# Altium schematic symbol library 5103308-2.SchLib: 1 symbol
Pins are listed as number, name and electrical type; pins without a type are passive.

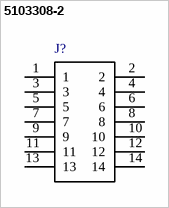
[diagram p0: symbol 5103308-2]

## 5103308-2
designator J?  (value not drawn)
/ Header; Pin; Vertical; Copper Alloy; Thermoplastic; 14; 0.100 x 0.100 in.; 1 A /; MF: TE Connectivity; TE_purchase_URL: https://www.te.com/usa-en/product-5103308-2.html?te_bu=Cor&te_type=disp&te_campaign=seda_glo_cor-seda-global-disp-prtnr-fy19-seda-model-bom-cta_sma-317_1&elqCampaignId=32493; MP: 5103308-2; Availability: Unavailable; Package: None; SnapEDA_Link: https://www.snapeda.com/parts/5103308-2/TE%20Connectivity%20AMP%20Connectors/view-part/?ref=snap; Price: None; Value: *
footprint TE_5103308-2
pins: 1, 2, 3, 4, 5, 6, 7, 8, 9, 10, 11, 12, 13, 14